# Altium footprint library jointbar.PCBLIB: 193 footprints (part 5 of 13)
Each footprint in its own frame and in the unit in brackets; x right, y up, seen from the top. Pads: shape width x height; smd on the part's side, far side on the other; paste and mask are expansions set on the pad; w line width, h text height; cw(c..) or ccw(c..) is an arc to the next point about the centre after c.
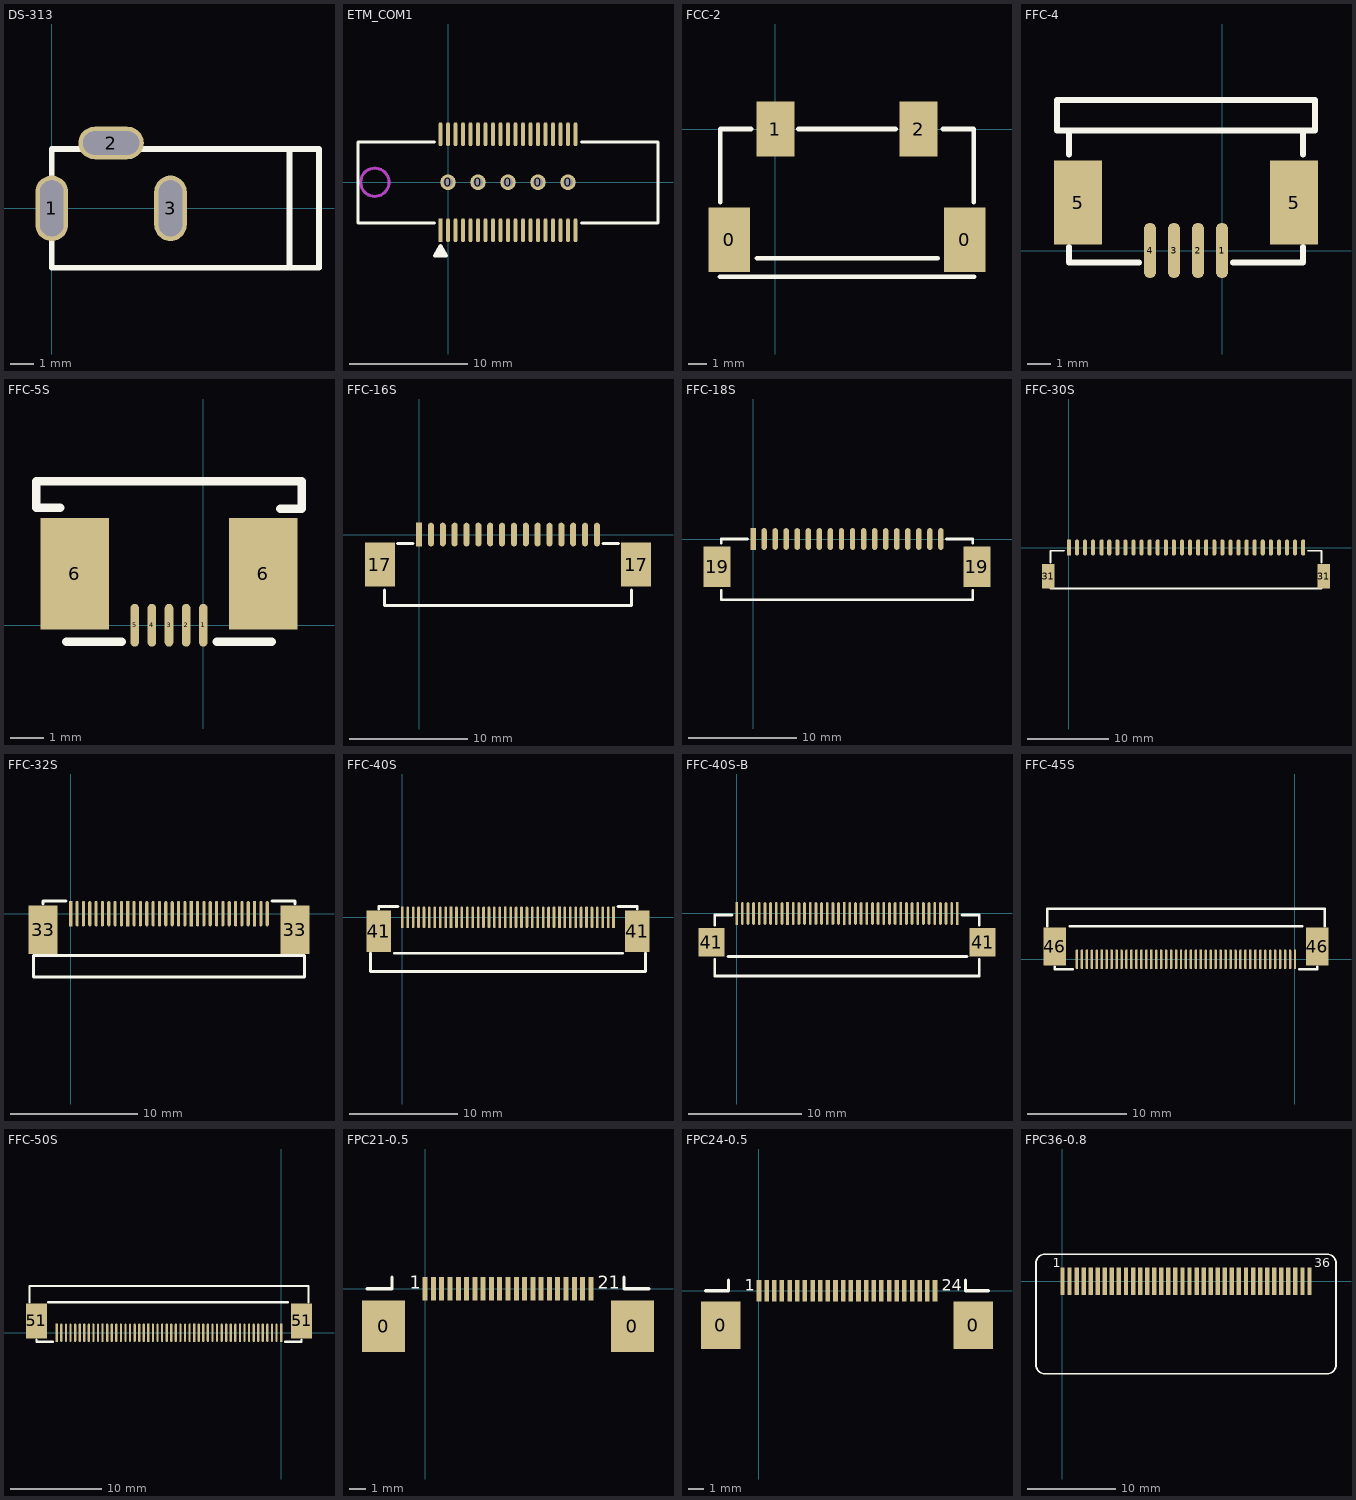
[diagram p4: the footprints below, top view; thin cyan lines are the x and y axes]

## DS-313 [mm]
pads (3):
  oval 1.4x2.8 hole 1 slot 2.4 at 90 deg: 1(0,0) 3(5.08,0)
  oval 2.8x1.4 hole 1 slot 2.4 at 0 deg: 2(2.54,2.794)
TopOverlay:
  lines w0.254: 10.16,-2.54 10.16,2.54 ; 0,-2.54 11.43,-2.54 11.43,2.54 0,2.54 0,-2.54

## ETM_COM1 [mil]
pads (43):
  round 52 hole 32: 0(0,0) 0(100,0) 0(200,0) 0(300,0) 0(400,0)
  rect 12.5x80 smd: 1(-25,-160)
  oval 12.5x80 smd: 2(-25,160) 3(0,-160) 4(0,160) 5(25,-160) 6(25,160) 7(50,-160) 8(50,160) 9(75,-160) 10(75,160) 11(100,-160) 12(100,160) 13(125,-160) 14(125,160) 15(150,-160) 16(150,160) 17(175,-160) 18(175,160) 19(200,-160) 20(200,160) 21(225,-160) 22(225,160) 23(250,-160) 24(250,160) 25(275,-160) 26(275,160) 27(300,-160) 28(300,160) 29(325,-160) 30(325,160) 31(350,-160) 32(350,160) 33(375,-160) 34(375,160) 35(400,-160) 36(400,160) 37(425,-160) 38(425,160)
TopOverlay:
  rectangle: -40,-245 -5,-235
  rectangle: -35,-245 -15,-220
  lines w10: -45,-135 -300,-135 -300,135 -45,135 ; 445,-135 700,-135 700,135 445,135 ; -45,-245 -5,-245 -25,-210 -45,-245
KeepOutLayer:
  circle w10: c-244,0 r47.24
Mechanical1:
  circle w10: c-244,0 r47.24

## FCC-2 [mil]
pads (4):
  rect 90x140 smd: 0(-100,-240) 0(410,-240)
  rect 82x120 smd: 1(0,0) 2(310,0)
TopOverlay:
  lines w10: -120.18,-320 431,-320 ; -120,-159 -120,0 -53,0 ; -40,-280 352,-280 ; 50,0 261,0 ; 363,0 430,0 430,-159

## FFC-4 [mil]
pads (6):
  oval 20x92 smd: 1(0,0) 2(-40,0) 3(-80,0) 4(-120,0)
  rect 80x140 smd: 5(-240,80) 5(120,80)
TopOverlay:
  lines w10: -255,6 -255,-20 -138,-20 ; -255,160 -255,200 ; 18,-20 135,-20 135,6 ; 135,160 135,200 ; -255,200 -275,200 -275,251 155,251 155,200 135,200 ; -255,200 135,200

## FFC-5S [mil]
pads (7):
  oval 10x50 smd: 1(0,0) 2(-20,0) 3(-40,0) 4(-60,0) 5(-80,0)
  rect 80x130 smd: 6(-150,60) 6(70,60)
TopOverlay:
  lines w10: -167,137 -195,137 -195,168 115,168 115,136 90,136 ; -160,-19 -95,-19 ; 16,-19 80,-19

## FFC-16S [mm]
pads (18):
  rect 0.508x2 smd: 1(0,0)
  oval 0.508x2 smd: 2(1,0) 3(2,0) 4(3,0) 5(4,0) 6(5,0) 7(6,0) 8(7,0) 9(8,0) 10(9,0) 11(10,0) 12(11,0) 13(12,0) 14(13,0) 15(14,0) 16(15,0)
  rect 2.5x3.7 smd: 17(-3.302,-2.54) 17(18.302,-2.54)
TopOverlay:
  lines w0.254: -2.921,-4.699 -2.921,-5.969 17.921,-5.969 17.921,-4.699 ; -1.803,-0.737 -0.508,-0.737 ; 15.508,-0.737 16.803,-0.737

## FFC-18S [mm]
pads (20):
  rect 0.5x2 smd: 1(0,0)
  oval 0.5x2 smd: 2(1.016,0) 3(2.032,0) 4(3.048,0) 5(4.064,0) 6(5.08,0) 7(6.096,0) 8(7.112,0) 9(8.128,0) 10(9.144,0) 11(10.16,0) 12(11.176,0) 13(12.192,0) 14(13.208,0) 15(14.224,0) 16(15.24,0) 17(16.256,0) 18(17.272,0)
  rect 2.5x3.7 smd: 19(-3.302,-2.54) 19(20.574,-2.54)
TopOverlay:
  lines w0.254: -2.921,-4.699 -2.921,-5.588 20.193,-5.588 20.193,-4.699 ; -2.921,-0.381 -2.921,0 -0.508,0 ; 17.78,0 20.193,0 20.193,-0.381

## FFC-30S [mm]
pads (32):
  rect 0.5x2 smd: 1(0,0)
  oval 0.5x2 smd: 2(1,0) 3(2,0) 4(3,0) 5(4.064,0) 6(5,0) 7(6,0) 8(7,0) 9(8,0) 10(9,0) 11(10,0) 12(11,0) 13(12,0) 14(13,0) 15(14,0) 16(15,0) 17(16,0) 18(17,0) 19(18,0) 20(19,0) 21(20,0) 22(21,0) 23(22,0) 24(23,0) 25(24,0) 26(25,0) 27(26,0) 28(27,0) 29(28,0) 30(29,0)
  rect 1.524x3.048 smd: 31(-2.54,-3.556) 31(31.54,-3.556)
TopOverlay:
  lines w0.203: -2.272,-5.08 31.272,-5.08 ; -2.272,-1.854 -2.272,-0.38 -0.56,-0.38 ; 29.56,-0.38 31.272,-0.38 31.272,-1.854

## FFC-32S [mm]
pads (34):
  rect 0.25x2 smd: 1(0,0) 10(4.5,0) 20(9.5,0) 30(14.5,0)
  oval 0.25x2 smd: 2(0.5,0) 3(1,0) 4(1.5,0) 5(2,0) 6(2.5,0) 7(3,0) 8(3.5,0) 9(4,0) 11(5,0) 12(5.5,0) 13(6,0) 14(6.5,0) 15(7,0) 16(7.5,0) 17(8,0) 18(8.5,0) 19(9,0) 21(10,0) 22(10.5,0) 23(11,0) 24(11.5,0) 25(12,0) 26(12.5,0) 27(13,0) 28(13.5,0) 29(14,0) 31(15,0) 32(15.5,0)
  rect 2.286x3.81 smd: 33(-2.182,-1.276) 33(17.682,-1.276)
TopOverlay:
  lines w0.254: -2.182,0.756 -2.182,1.01 -0.404,1.01 ; 15.904,1.01 17.682,1.01 17.682,0.756 ; -2.944,-5 -2.944,-3.308 18.444,-3.308 18.444,-5 -2.944,-5

## FFC-40S [mm]
pads (42):
  rect 0.25x2 smd: 1(0,0) 10(4.5,0) 20(9.5,0) 30(14.5,0) 40(19.5,0)
  oval 0.25x2 smd: 2(0.5,0) 3(1,0) 4(1.5,0) 5(2,0) 6(2.5,0) 7(3,0) 8(3.5,0) 9(4,0) 11(5,0) 12(5.5,0) 13(6,0) 14(6.5,0) 15(7,0) 16(7.5,0) 17(8,0) 18(8.5,0) 19(9,0) 21(10,0) 22(10.5,0) 23(11,0) 24(11.5,0) 25(12,0) 26(12.5,0) 27(13,0) 28(13.5,0) 29(14,0) 31(15,0) 32(15.5,0) 33(16,0) 34(16.5,0) 35(17,0) 36(17.5,0) 37(18,0) 38(18.5,0) 39(19,0)
  rect 2.286x3.81 smd: 41(-2.182,-1.276) 41(21.694,-1.276)
TopOverlay:
  lines w0.254: -2.944,-3.308 -2.944,-5 22.456,-5 22.456,-3.308 ; -2.182,0.756 -2.182,1.01 -0.404,1.01 ; -0.75,-3.306 20.35,-3.306 ; 19.916,1.01 21.694,1.01 21.694,0.756

## FFC-40S-B [mm]
height 1.6
pads (42):
  rect 0.25x2 smd: 1(0,0) 10(4.5,0) 20(9.5,0) 30(14.5,0) 40(19.5,0)
  oval 0.25x2 smd: 2(0.5,0) 3(1,0) 4(1.5,0) 5(2,0) 6(2.5,0) 7(3,0) 8(3.5,0) 9(4,0) 11(5,0) 12(5.5,0) 13(6,0) 14(6.5,0) 15(7,0) 16(7.5,0) 17(8,0) 18(8.5,0) 19(9,0) 21(10,0) 22(10.5,0) 23(11,0) 24(11.5,0) 25(12,0) 26(12.5,0) 27(13,0) 28(13.5,0) 29(14,0) 31(15,0) 32(15.5,0) 33(16,0) 34(16.5,0) 35(17,0) 36(17.5,0) 37(18,0) 38(18.5,0) 39(19,0)
  rect 2.286x2.54 smd: 41(-2.235,-2.54) 41(21.735,-2.54)
TopOverlay:
  lines w0.254: -1.934,-4.064 -1.934,-5.508 21.434,-5.508 21.434,-4.064 ; -1.934,-1.016 -1.934,-0.133 -0.404,-0.133 ; -0.75,-3.814 20.35,-3.814 ; 19.904,-0.133 21.434,-0.133 21.434,-1.016

## FFC-45S [mm]
pads (47):
  rect 0.25x2 smd: 1(0,0) 10(-4.5,0) 20(-9.5,0) 30(-14.5,0) 40(-19.5,0)
  oval 0.25x2 smd: 2(-0.5,0) 3(-1,0) 4(-1.5,0) 5(-2,0) 6(-2.5,0) 7(-3,0) 8(-3.5,0) 9(-4,0) 11(-5,0) 12(-5.5,0) 13(-6,0) 14(-6.5,0) 15(-7,0) 16(-7.5,0) 17(-8,0) 18(-8.5,0) 19(-9,0) 21(-10,0) 22(-10.5,0) 23(-11,0) 24(-11.5,0) 25(-12,0) 26(-12.5,0) 27(-13,0) 28(-13.5,0) 29(-14,0) 31(-15,0) 32(-15.5,0) 33(-16,0) 34(-16.5,0) 35(-17,0) 36(-17.5,0) 37(-18,0) 38(-18.5,0) 39(-19,0) 41(-20,0) 42(-20.5,0) 43(-21,0) 44(-21.5,0) 45(-22,0)
  rect 2.286x3.81 smd: 46(-24.224,1.29) 46(2.232,1.29)
TopOverlay:
  lines w0.254: -24.986,3.322 -24.986,5.1 2.994,5.1 2.994,3.322 ; -24.224,-0.742 -24.224,-0.996 -22.446,-0.996 ; -22.708,3.322 0.708,3.322 ; 0.454,-0.996 2.232,-0.996 2.232,-0.742

## FFC-50S [mm]
pads (52):
  rect 0.25x2 smd: 1(0,0) 10(-4.5,0) 20(-9.5,0) 30(-14.5,0) 40(-19.5,0) 50(-24.5,0)
  oval 0.25x2 smd: 2(-0.5,0) 3(-1,0) 4(-1.5,0) 5(-2,0) 6(-2.5,0) 7(-3,0) 8(-3.5,0) 9(-4,0) 11(-5,0) 12(-5.5,0) 13(-6,0) 14(-6.5,0) 15(-7,0) 16(-7.5,0) 17(-8,0) 18(-8.5,0) 19(-9,0) 21(-10,0) 22(-10.5,0) 23(-11,0) 24(-11.5,0) 25(-12,0) 26(-12.5,0) 27(-13,0) 28(-13.5,0) 29(-14,0) 31(-15,0) 32(-15.5,0) 33(-16,0) 34(-16.5,0) 35(-17,0) 36(-17.5,0) 37(-18,0) 38(-18.5,0) 39(-19,0) 41(-20,0) 42(-20.5,0) 43(-21,0) 44(-21.5,0) 45(-22,0) 46(-22.5,0) 47(-23,0) 48(-23.5,0) 49(-24,0)
  rect 2.286x3.81 smd: 51(-26.724,1.29) 51(2.232,1.29)
TopOverlay:
  lines w0.254: -27.486,3.322 -27.486,5.1 2.994,5.1 2.994,3.322 ; -26.724,-0.742 -26.724,-0.996 -24.946,-0.996 ; -25.454,3.322 0.708,3.322 ; 0.454,-0.996 2.232,-0.996 2.232,-0.742

## FPC21-0.5 [mm]
pads (23):
  rect 2.6x3.1 smd: 0(-2.5,-2.25) 0(12.5,-2.25)
  rect 0.3x1.4 smd: 1(0,0) 2(0.5,0) 3(1,0) 4(1.5,0) 5(2,0) 6(2.5,0) 7(3,0) 8(3.5,0) 9(4,0) 10(4.5,0) 11(5,0) 12(5.5,0) 13(6,0) 14(6.5,0) 15(7,0) 16(7.5,0) 17(8,0) 18(8.5,0) 19(9,0) 20(9.5,0) 21(10,0)
TopOverlay:
  lines w0.203: -3.5,0 -2,0 -2,0.7 ; 12,0.7 12,0 13.5,0
  text "21" at 10.414,0 h0.76
  text "1" at -0.914,0 h0.76

## FPC24-0.5 [mm]
pads (26):
  rect 2.6x3.1 smd: 0(-2.5,-2.25) 0(14,-2.25)
  rect 0.3x1.4 smd: 1(0,0) 2(0.5,0) 3(1,0) 4(1.5,0) 5(2,0) 6(2.5,0) 7(3,0) 8(3.5,0) 9(4,0) 10(4.5,0) 11(5,0) 12(5.5,0) 13(6,0) 14(6.5,0) 15(7,0) 16(7.5,0) 17(8,0) 18(8.5,0) 19(9,0) 20(9.5,0) 21(10,0) 22(10.5,0) 23(11,0) 24(11.5,0)
TopOverlay:
  lines w0.203: -3.5,0 -2,0 -2,0.7 ; 13.5,0.7 13.5,0 15,0
  text "1" at -0.914,0 h0.76
  text "24" at 11.938,0 h0.76

## FPC36-0.8 [mm]
pads (36):
  rect 0.5x3.1 smd: 1(0,0) 2(0.8,0) 3(1.6,0) 4(2.4,0) 5(3.2,0) 6(4,0) 7(4.8,0) 8(5.6,0) 9(6.4,0) 10(7.2,0) 11(8,0) 12(8.8,0) 13(9.6,0) 14(10.4,0) 15(11.2,0) 16(12,0) 17(12.8,0) 18(13.6,0) 19(14.4,0) 20(15.2,0) 21(16,0) 22(16.8,0) 23(17.6,0) 24(18.4,0) 25(19.2,0) 26(20,0) 27(20.8,0) 28(21.6,0) 29(22.4,0) 30(23.2,0) 31(24,0) 32(24.8,0) 33(25.6,0) 34(26.4,0) 35(27.2,0) 36(28,0)
TopOverlay:
  lines w0.203: -3,-9.5 ccw(c-2,-9.5) -2,-10.5 30,-10.5 ccw(c30,-9.5) 31,-9.5 31,2.05 ccw(c30,2.05) 30,3.05 -2,3.05 ccw(c-2,2.05) -3,2.05 -3,-9.5
  text "36" at 28.524,1.575 h1.02
  text "1" at -1.092,1.549 h1.02